# EAGLE library part DAC7801U (library burr-brown)
12-Bit Multiplying DAC
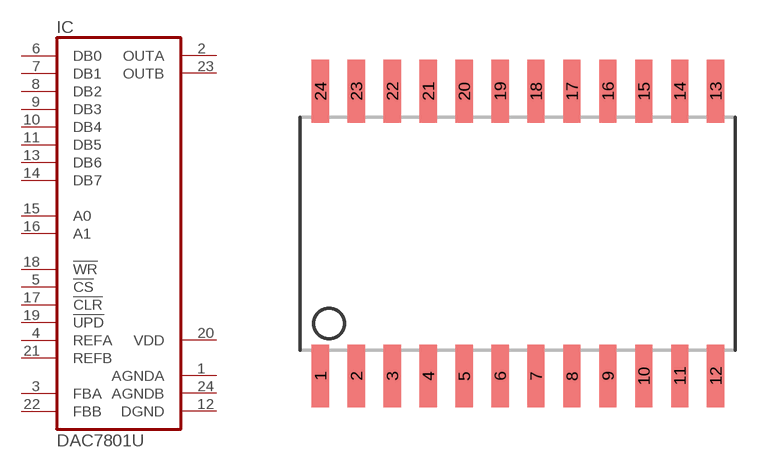
[diagram p198: symbol with the pads of SO-24L; footprint SO-24L]

Designator prefix IC

## DAC7801U  [SO-24L]
1  AGNDA  pwr
2  OUTA  out
3  FBA  pas
4  REFA  in
5  !CS  in
6  DB0  in
7  DB1  in
8  DB2  in
9  DB3  in
10  DB4  in
11  DB5  in
12  DGND  pwr
13  DB6  in
14  DB7  in
15  A0  in
16  A1  in
17  !CLR  in
18  !WR  in
19  !UPD  in
20  VDD  pwr
21  REFB  in
22  FBB  pas
23  OUTB  out
24  AGNDB  pwr

## Footprint SO-24L (pad centres in mm)
smd 0.61 x 2.21: 1 -6.985,-5.029; 2 -5.715,-5.029; 3 -4.445,-5.029; 4 -3.175,-5.029; 5 -1.905,-5.029; 6 -0.635,-5.029; 7 0.635,-5.029; 8 1.905,-5.029; 9 3.175,-5.029; 10 4.445,-5.029; 11 5.715,-5.029; 12 6.985,-5.029; 13 6.985,5.029; 14 5.715,5.029; 15 4.445,5.029; 16 3.175,5.029; 17 1.905,5.029; 18 0.635,5.029; 19 -0.635,5.029; 20 -1.905,5.029; 21 -3.175,5.029; 22 -4.445,5.029; 23 -5.715,5.029; 24 -6.985,5.029